# Altium footprint library ALL.PcbLib: 17 footprints (part 1 of 2)
Each footprint in its own frame and in the unit in brackets; x right, y up, seen from the top. Pads: shape width x height; smd on the part's side, far side on the other; paste and mask are expansions set on the pad; w line width, h text height; cw(c..) or ccw(c..) is an arc to the next point about the centre after c.
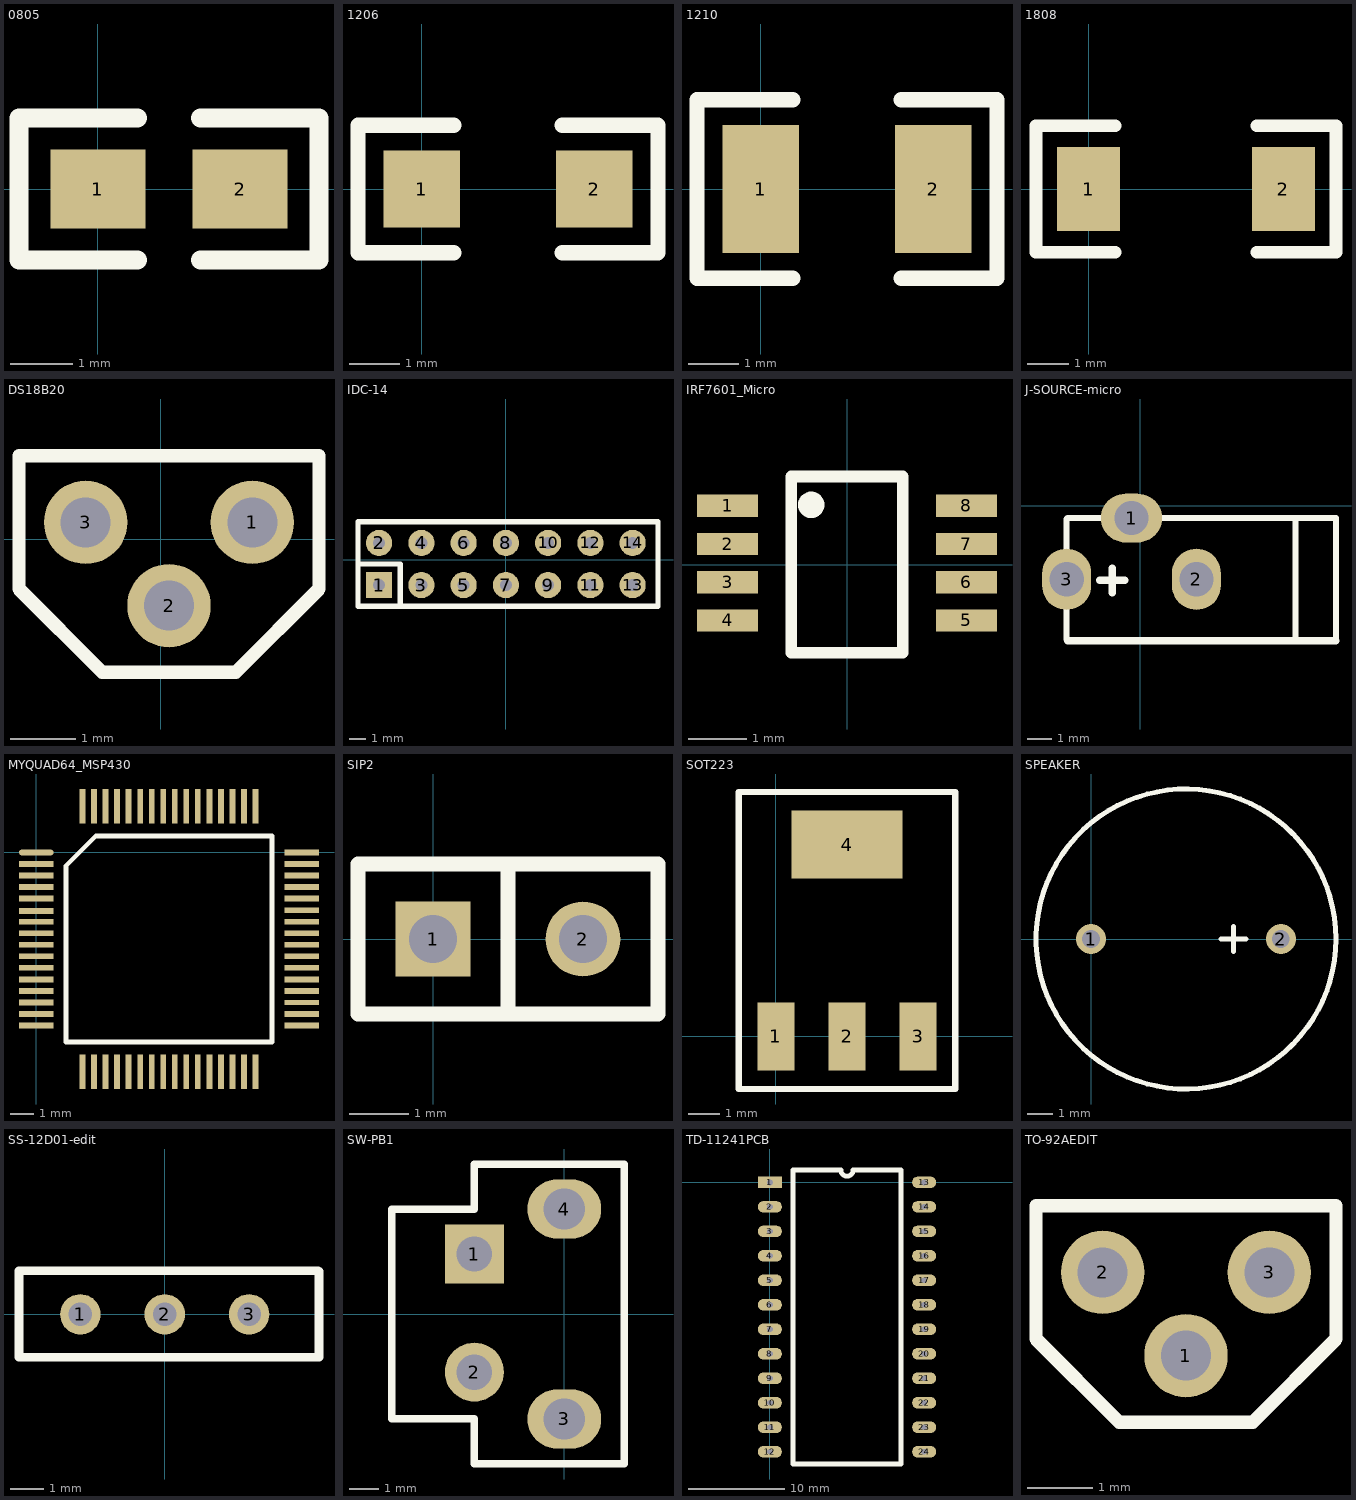
[diagram p0: the footprints below, top view; thin cyan lines are the x and y axes]

## 0805 [mil]
pads (2):
  rect 60x50 smd: 1(0,0) 2(90,0)
Top Overlay:
  lines w12: 25,-45 -50,-45 -50,45 25,45 ; 65,-45 140,-45 140,45 65,45

## 1206 [mil]
pads (2):
  rect 60x60 smd: 1(0,0) 2(135,0)
Top Overlay:
  lines w12: 25,-50 -50,-50 -50,50 25,50 ; 110,-50 185,-50 185,50 110,50

## 1210 [mil]
pads (2):
  rect 60x100 smd: 1(0,0) 2(135,0)
Top Overlay:
  lines w12: 25,-70 -50,-70 -50,70 25,70 ; 110,-70 185,-70 185,70 110,70

## 1808 [mil]
pads (2):
  rect 60x80 smd: 1(0,0) 2(185,0)
Top Overlay:
  lines w12: 25,-60 -50,-60 -50,60 25,60 ; 160,-60 235,-60 235,60 160,60

## DS18B20 [mil]
pads (3):
  round 50 hole 30: 1(55,10) 2(5,-40) 3(-45,10)
Top Overlay:
  lines w8: -85,-30 -85,50 95,50 95,-30 45,-80 -35,-80 -85,-30

## IDC-14 [mil]
pads (14):
  rect 62x62 hole 28: 1(-300,-60)
  round 62 hole 28: 2(-300,40) 3(-200,-60) 4(-200,40) 5(-100,-60) 6(-100,40) 7(0,-60) 8(0,40) 9(100,-60) 10(100,40) 11(200,-60) 12(200,40) 13(300,-60) 14(300,40)
Top Overlay:
  lines w12: -350,-10 -250,-10 -250,-110 ; -350,-110 -350,90 360,90 360,-110 -350,-110

## IRF7601_Micro [mm]
height 1
pads (8):
  rect 1.04x0.38 smd: 1(-2.032,1) 2(-2.032,0.35) 3(-2.032,-0.3) 4(-2.032,-0.95) 5(2.032,-0.95) 6(2.032,-0.3) 7(2.032,0.35) 8(2.032,1)
Top Overlay:
  circle w0.25: c-0.608,1.016 r0.1
  lines w0.2: -0.95,-1.5 -0.95,1.5 0.95,1.5 0.95,-1.5 -0.95,-1.5

## J-SOURCE-micro [mm]
pads (3):
  oval 2.5x2 hole 1.4: 1(-0.35,-0.5)
  oval 2x2.5 hole 1.4: 2(2.3,-3) 3(-3,-3)
Top Overlay:
  lines w0.254: -3,-5.452 -3,-3 -3,-0.54 -2.96,-0.5 -0.35,-0.5 ; 0.6,-0.5 8,-0.5 8,-5.5 ; 6.35,-5.5 6.35,-0.508
  lines w0.305: -2.952,-5.5 8,-5.5 ; -1.651,-3.048 -0.635,-3.048 ; -1.143,-3.556 -1.143,-2.54

## MYQUAD64_MSP430 [mm]
pads (64):
  oval 1.5x0.25 smd: 1(0,0)
  rect 1.5x0.25 smd: 2(0,-0.5) 3(0,-1) 4(0,-1.5) 5(0,-2) 6(0,-2.54) 7(0,-3) 8(0,-3.5) 9(0,-4) 10(0,-4.5) 11(0,-5) 12(0,-5.5) 13(0,-6) 14(0,-6.5) 15(0,-7) 16(0,-7.5) 33(11.5,-7.5) 34(11.5,-7) 36(11.5,-6) 37(11.5,-5.5) 38(11.5,-5) 39(11.5,-4.5) 40(11.5,-4) 41(11.5,-3.5) 42(11.5,-3) 43(11.5,-2.5) 44(11.5,-2) 45(11.5,-1.5) 46(11.5,-1) 47(11.5,-0.5) 48(11.5,0)
  rect 0.25x1.5 smd: 17(2,-9.5) 18(2.5,-9.5) 19(3,-9.5) 20(3.5,-9.5) 21(4,-9.5) 22(4.5,-9.5) 23(5,-9.5) 24(5.5,-9.5) 25(6,-9.5) 26(6.5,-9.5) 27(7,-9.5) 28(7.5,-9.5) 29(8,-9.5) 30(8.5,-9.5) 31(9,-9.5) 32(9.5,-9.5) 49(9.5,2) 50(9,2) 51(8.5,2) 52(8,2) 53(7.5,2) 54(7,2) 55(6.5,2) 56(6,2) 57(5.5,2) 58(5,2) 59(4.5,2) 60(4,2) 61(3.5,2) 62(3,2) 63(2.5,2) 64(2,2)
  rect 1.5x0.2 smd: 35(11.5,-6.5)
Top Overlay:
  lines w0.2: 1.285,-8.215 10.215,-8.215 10.215,0.715 2.57,0.715 1.285,-0.57 1.285,-8.215

## SIP2 [mil]
pads (2):
  rect 50x50 hole 32: 1(0,0)
  round 50 hole 32: 2(100,0)
Top Overlay:
  lines w10: 50,-50 50,50 ; -50,-50 -50,50 150,50 150,-50 -50,-50

## SOT223 [mm]
pads (4):
  rect 1.2x2.2 smd: 1(0,0) 2(2.3,0) 3(4.6,0)
  rect 3.6x2.2 smd: 4(2.3,6.2)
Top Overlay:
  lines w0.2: -1.2,-1.7 -1.2,7.9 5.8,7.9 5.8,-1.7 -1.2,-1.7

## SPEAKER [mm]
pads (2):
  round 1.2 hole 0.7: 1(0,0) 2(7.6,0)
Top Overlay:
  circle w0.2: c3.8,0 r6
  lines w0.2: 5.192,0 6.208,0 ; 5.7,-0.508 5.7,0.508

## SS-12D01-edit [mm]
pads (3):
  round 1.2 hole 0.7: 1(-2.5,0) 2(0,0) 3(2.5,0)
Top Overlay:
  lines w0.254: -4.318,-1.27 4.572,-1.27 4.572,1.27 4.552,1.29 -4.318,1.29 -4.318,-1.27

## SW-PB1 [mm]
pads (4):
  rect 2x2 hole 1.2: 1(-3.048,2.032)
  round 2 hole 1.2: 2(-3.048,-1.968)
  oval 2.5x2 hole 1.4: 3(0,-3.556) 4(0,3.556)
Top Overlay:
  lines w0.254: -5.848,-3.556 -3.048,-3.556 -3.048,-5.08 2.032,-5.08 2.032,5.08 -3.048,5.08 -3.048,3.556 -5.848,3.556 -5.848,-3.556

## TD-11241PCB [mm]
pads (24):
  rect 2.5x1.2 hole 0.6: 1(0,0)
  oval 2.5x1.2 hole 0.6: 2(0,-2.54) 3(0,-5.08) 4(0,-7.62) 5(0,-10.16) 6(0,-12.7) 7(0,-15.24) 8(0,-17.78) 9(0,-20.32) 10(0,-22.86) 11(0,-25.4) 12(0,-27.94) 13(16,0) 14(16,-2.54) 15(16,-5.08) 16(16,-7.62) 17(16,-10.16) 18(16,-12.7) 19(16,-15.24) 20(16,-17.78) 21(16,-20.32) 22(16,-22.86) 23(16,-25.4) 24(16,-27.94)
Top Overlay:
  lines w0.5: 2.385,-29.21 2.385,1.27 7.365,1.27 ccw(c8,1.27) 8.635,1.27 13.615,1.27 13.615,-29.21 2.385,-29.21

## TO-92AEDIT [mil]
pads (3):
  round 50 hole 30: 1(410,-330) 2(360,-280) 3(460,-280)
Top Overlay:
  lines w8: 320,-320 320,-240 500,-240 500,-320 450,-370 370,-370 320,-320